# Altium footprint library Devices.PcbLib: 27 footprints (part 1 of 2)
Each footprint in its own frame and in the unit in brackets; x right, y up, seen from the top. Pads: shape width x height; smd on the part's side, far side on the other; paste and mask are expansions set on the pad; w line width, h text height; cw(c..) or ccw(c..) is an arc to the next point about the centre after c.
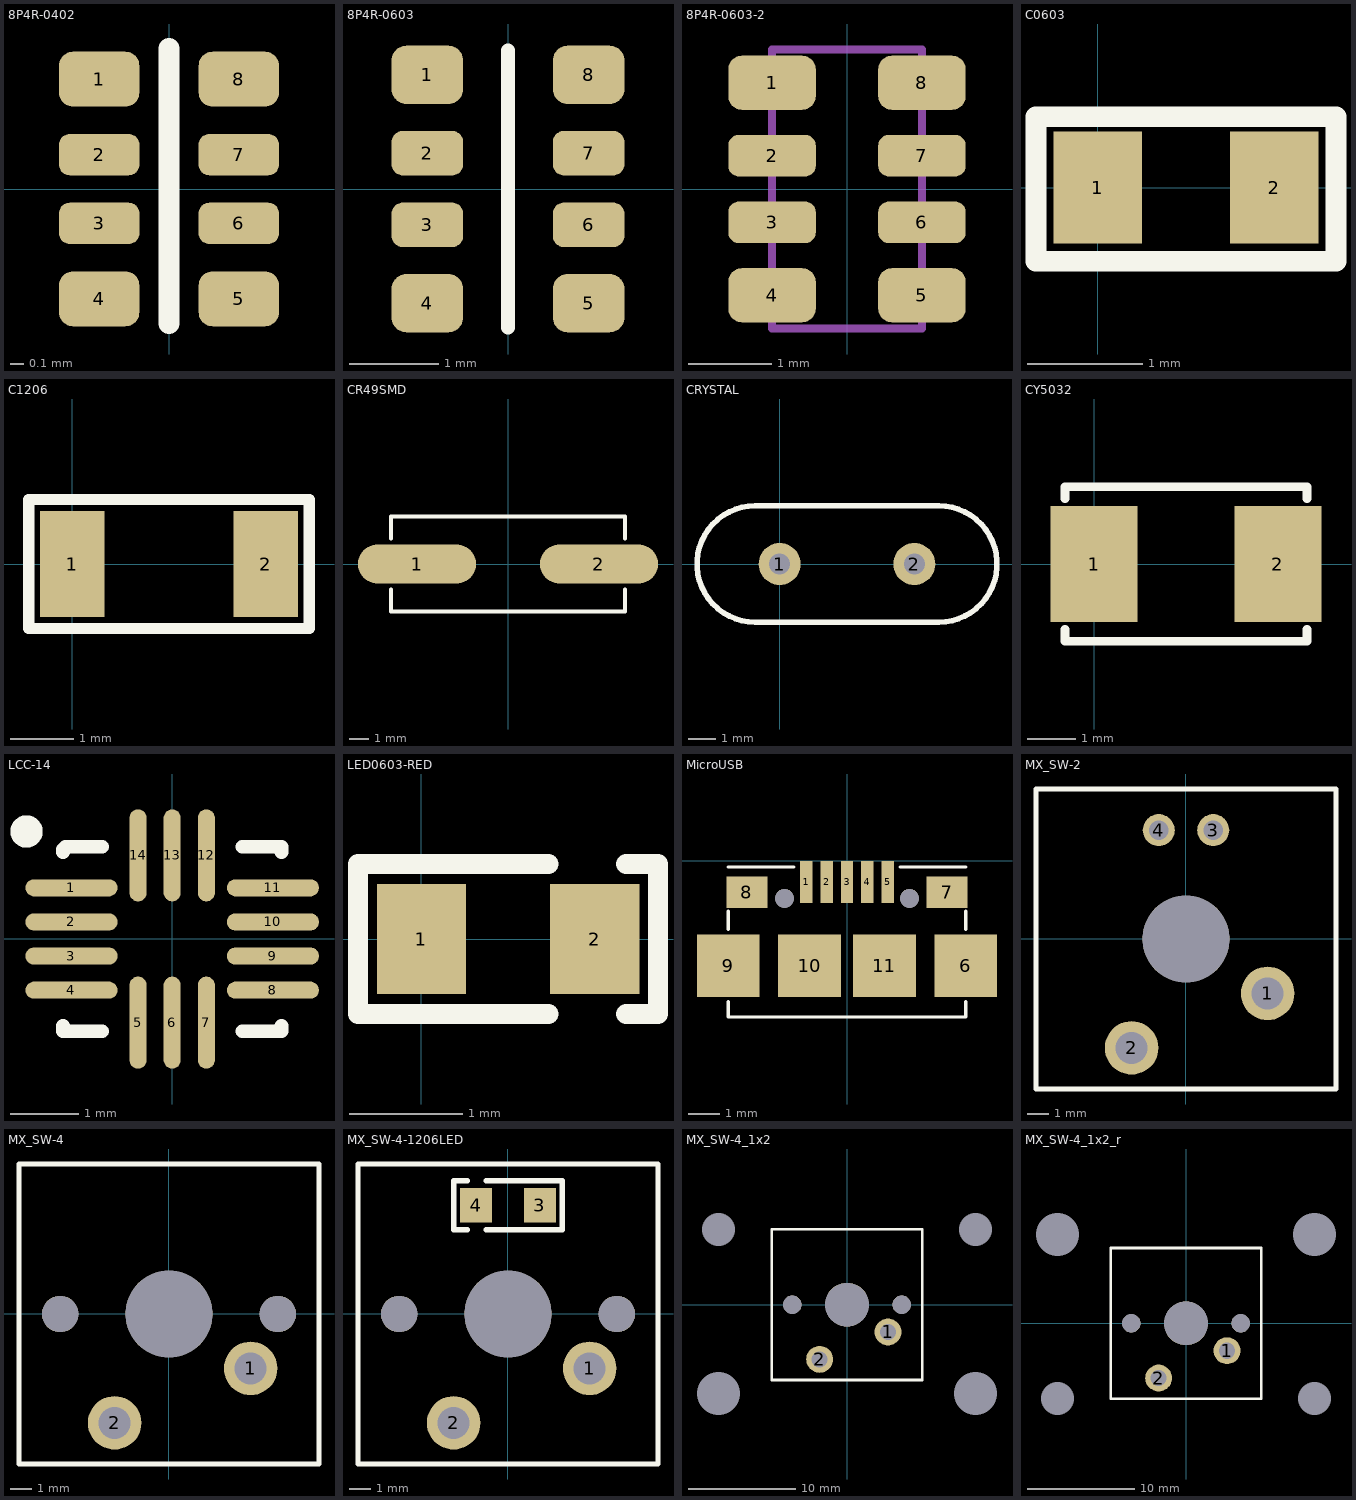
[diagram p0: the footprints below, top view; thin cyan lines are the x and y axes]

## 8P4R-0402 [mm]
height 0.8
pads (8):
  rrect50% 0.584x0.4 smd: 1(-0.508,0.8) 4(-0.508,-0.8) 5(0.508,-0.8) 8(0.508,0.8)
  rrect50% 0.584x0.3 smd: 2(-0.508,0.25) 3(-0.508,-0.25) 6(0.508,-0.25) 7(0.508,0.25)
Top Overlay:
  lines w0.152: 0,-0.978 0,1.022
3D body "User Library-YC124-1.STEP": height 0.45, standoff 0, extent -0.5,-1 0.5,1

## 8P4R-0603 [mm]
height 0.8
pads (8):
  rrect50% 0.8x0.65 smd: 1(-0.9,1.275) 4(-0.9,-1.275) 5(0.9,-1.275) 8(0.9,1.275)
  rrect50% 0.8x0.5 smd: 2(-0.9,0.4) 3(-0.9,-0.4) 6(0.9,-0.4) 7(0.9,0.4)
Top Overlay:
  lines w0.152: 0,-1.549 0,1.549
3D body "0603.stp": height 0.62, standoff 0, extent -0.95,-1.6 0.95,1.6

## 8P4R-0603-2 [mm]
height 0.7
pads (8):
  rrect50% 1.05x0.65 smd: 1(-0.9,1.275) 4(-0.9,-1.275) 5(0.9,-1.275) 8(0.9,1.275)
  rrect50% 1.05x0.5 smd: 2(-0.9,0.4) 3(-0.9,-0.4) 6(0.9,-0.4) 7(0.9,0.4)
Mechanical 13:
  lines w0.1: -0.9,-1.675 -0.9,1.675 0.9,1.675 0.9,-1.675 -0.9,-1.675
3D body "0603.stp": height 0.62, standoff 0, extent -0.95,-1.6 0.95,1.6

## C0603 [mil]
pads (2):
  rect 30x38 smd: 1(0,0) 2(60,0)
Top Overlay:
  lines w7: -21,-25 81,-25 81,24 -21,24 -21,-25
3D body "c0603.stp": height 35.43, standoff 0, extent -3.46,-17.71 63.47,17.72

## C1206 [mil]
pads (2):
  rect 40x66 smd: 1(0,0) 2(120,0)
Top Overlay:
  lines w7: -27,-40 147,-40 147,40 -27,40 -27,-40
3D body "c1206.stp": height 39.37, standoff 0, extent -6.92,-35.43 126.93,35.44

## CR49SMD [mm] "Crystal 49SMD"
height 4
pads (2):
  oval 6x2 smd: 1(-4.625,0) 2(4.625,0)
Top Overlay:
  lines w0.2: -5.95,-1.3 -5.95,-2.425 5.95,-2.425 5.95,-1.3 ; -5.95,1.3 -5.95,2.425 5.95,2.425 5.95,1.3
3D body "User Library-Crystal HC49_US-SM.STEP": height 4.3, standoff 0, extent -6.4,-2.415 6.4,2.415

## CRYSTAL [mil]
pads (2):
  round 60 hole 30: 1(0,0) 2(192.13,0)
Top Overlay:
  lines w8: -35,-83 cw(c-35,0) -35,83 227.13,83 cw(c227.13,0) 227.13,-83 -35,-83

## CY5032 [mm]
pads (2):
  rect 1.8x2.4 smd: 1(0,0) 2(3.8,0)
Top Overlay:
  lines w0.178: -0.6,-1.35 -0.6,-1.6 4.4,-1.6 4.4,-1.35 ; -0.6,1.35 -0.6,1.6 4.4,1.6 4.4,1.35
3D body "cr5032_2.stp": height 1.23, standoff 0.02, extent -0.595,-1.6 4.405,1.6

## LCC-14 [mm] "ICM-42605"
height 1.08
pads (14):
  oval 1.35x0.25 smd: 1(-1.475,0.75) 2(-1.475,0.25) 3(-1.475,-0.25) 4(-1.475,-0.75) 8(1.475,-0.75) 9(1.475,-0.25) 10(1.475,0.25) 11(1.475,0.75)
  oval 0.25x1.35 smd: 5(-0.5,-1.225) 6(0,-1.225) 7(0.5,-1.225) 12(0.5,1.225) 13(0,1.225) 14(-0.5,1.225)
Top Overlay:
  circle w0.254: c-2.134,1.575 r0.11
  lines w0.2: -1.6,-1.275 -1.6,-1.35 -1.025,-1.35 ; -1.6,1.275 -1.6,1.312 -1.563,1.35 -1.025,1.35 ; 1.025,-1.35 1.6,-1.35 1.6,-1.275 ; 1.025,1.35 1.6,1.35 1.6,1.275
3D body "ICM-42605.STEP": height 0.9, standoff -0.01, extent -1.5,-1.25 1.5,1.25

## LED0603-RED [mil]
pads (2):
  rect 31x38 smd: 1(0,0) 2(60,0)
Top Overlay:
  lines w7: 44,-26 -22,-26 -22,26 44,26 ; 71,-26 82,-26 82,26 71,26
3D body "User Library-LED_0603_R.STEP": height 23.62, standoff -0.08, extent -1.49,-15.74 61.5,15.76

## MicroUSB [mm]
pads (13):
  rect 0.4x1.35 smd: 1(-1.3,-0.674) 2(-0.65,-0.674) 3(0,-0.674) 4(0.65,-0.674) 5(1.3,-0.674)
  rect 2x2 smd: 6(3.8,-3.35) 9(-3.8,-3.35) 10(-1.2,-3.35) 11(1.2,-3.35)
  rect 1.3x1 smd: 7(3.2,-1) 8(-3.2,-1)
  round 0.6 hole 0.6 paste+0 mask+0: ""(-2,-1.2) ""(2,-1.2)
Top Overlay:
  lines w0.1: -3.8,-4.5 -3.8,-5 ; -3.8,-2.2 -3.8,-1.6 ; -3.8,-0.2 -1.7,-0.2 ; 1.7,-0.2 3.8,-0.2 ; 3.8,-4.5 3.8,-5 ; 3.8,-2.2 3.8,-1.6 ; -3.8,-5 3.8,-5 ; -3.8,-5 3.8,-5
3D body "MicroUSB.stp": height 2.73, standoff 0.03, extent -3.9,-5.5 3.9,-0.5

## MX_SW-2 [mm] "without Fixation pins  1-Pole w/LED"
pads (5):
  round 2.5 hole 1.5: 1(3.81,-2.54) 2(-2.54,-5.08)
  round 1.5 hole 0.9: 3(1.27,5.08) 4(-1.27,5.08)
  round 4.064 hole 4.064: ""(0,0)
Top Overlay:
  lines w0.254: -7,-7 -7,7 7,7 7,-7 -7,-7

## MX_SW-4 [mil] "with Fixation pins  1-Pole"
pads (5):
  round 98.43 hole 59.06: 1(150,-100) 2(-100,-200)
  round 67 hole 67: ""(-200,0) ""(200,0)
  round 160 hole 160: ""(0,0)
Top Overlay:
  lines w10: -275.59,-275.59 275.59,-275.59 275.59,275.59 -275.59,275.59 -275.59,-275.59
3D body "User Library-cherry mx.STEP": height 586.14, standoff -116.61, extent -307.87,-321.45 307.88,321.46

## MX_SW-4-1206LED [mm] "with Fixation pins  1-Pole"
pads (7):
  round 2.5 hole 1.5: 1(3.81,-2.54) 2(-2.54,-5.08)
  rect 1.49x1.62 smd: 3(1.492,5.08) 4(-1.492,5.08)
  round 1.702 hole 1.702: ""(-5.08,0) ""(5.08,0)
  round 4.064 hole 4.064: ""(0,0)
Top Overlay:
  lines w0.254: -1.905,3.937 -2.54,3.937 -2.54,6.223 -1.905,6.223 ; -1.016,3.937 2.54,3.937 2.54,6.223 -1.016,6.223 ; -7,-7 -7,7 7,7 7,-7 -7,-7
3D body "User Library-cherry mx.STEP": height 14.89, standoff -2.96, extent -7.82,-8.165 7.82,8.165

## MX_SW-4_1x2 [mil] "with Fixation pins  1-Pole"
pads (9):
  round 98.43 hole 59.06: 1(150,-100) 2(-100,-200)
  round 0 hole 120: 5(-470,275) 7(470,275)
  round 0 hole 157: 6(-470,-325) 8(470,-325)
  round 67 hole 67: ""(-200,0) ""(200,0)
  round 160 hole 160: ""(0,0)
Top Overlay:
  lines w10: -275.59,-275.59 275.59,-275.59 275.59,275.59 -275.59,275.59 -275.59,-275.59
3D body "User Library-cherry mx.STEP": height 586.14, standoff -116.61, extent -307.87,-321.45 307.88,321.46

## MX_SW-4_1x2_r [mil] "with Fixation pins  1-Pole"
pads (9):
  round 98.43 hole 59.06: 1(150,-100) 2(-100,-200)
  round 0 hole 120: 3(-470,-275) 6(470,-275)
  round 0 hole 157: 4(-470,325) 5(470,325)
  round 67 hole 67: ""(-200,0) ""(200,0)
  round 160 hole 160: ""(0,0)
Top Overlay:
  lines w10: -275.59,-275.59 -275.59,275.59 275.59,275.59 275.59,-275.59 -275.59,-275.59
3D body "User Library-cherry mx.STEP": height 586.14, standoff -116.61, extent -307.87,-321.45 307.88,321.46